# EAGLE library part IBM8BIT (library Custom_Cons)
Nur Leiterbahnen/Pads kein Bauteil!
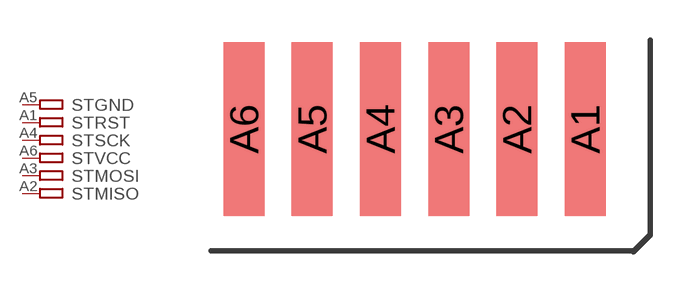
[diagram p1: symbol with the pads of IBM8BIT; footprint IBM8BIT]

Designator prefix ST; gates MISO=ATPIN MOSI=ATPIN VCC=ATPIN SCK=ATPIN RST=ATPIN GND=ATPIN

## IBM8BIT  [IBM8BIT]
A1  RST:P
A2  MISO:P
A3  MOSI:P
A4  SCK:P
A5  GND:P
A6  VCC:P

## Footprint IBM8BIT (pad centres in mm)
8-bit CARD IBM/PC-AT
smd 1.524 x 6.477: A1 6.35,0; A2 3.81,0; A3 1.27,0; A4 -1.27,0; A5 -3.81,0; A6 -6.35,0